# Altium integrated library CT3151-2.IntLib: 1 symbol
Pins are listed as number, name and electrical type; pins without a type are passive.

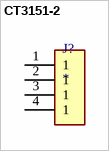
[diagram p0: symbol CT3151-2]

## CT3151-2
designator J?
Banana Jack Connector Standard Banana Solder Red; MF: Cal Test; MP: CT3151-2; SnapEDA_Link: https://www.snapeda.com/parts/CT3151-2/Cal+Test+Electronics/view-part/?ref=snap; Package: None; Value: *; Check_prices: https://www.snapeda.com/parts/CT3151-2/Cal+Test+Electronics/view-part/?ref=eda
footprint CALTEST_CT3151-2
pins: 1, 2 1, 3 1, 4 1